# Altium integrated library TI Power Management Power Multiplexer (MUX).IntLib: 62 symbols (part 2 of 3)
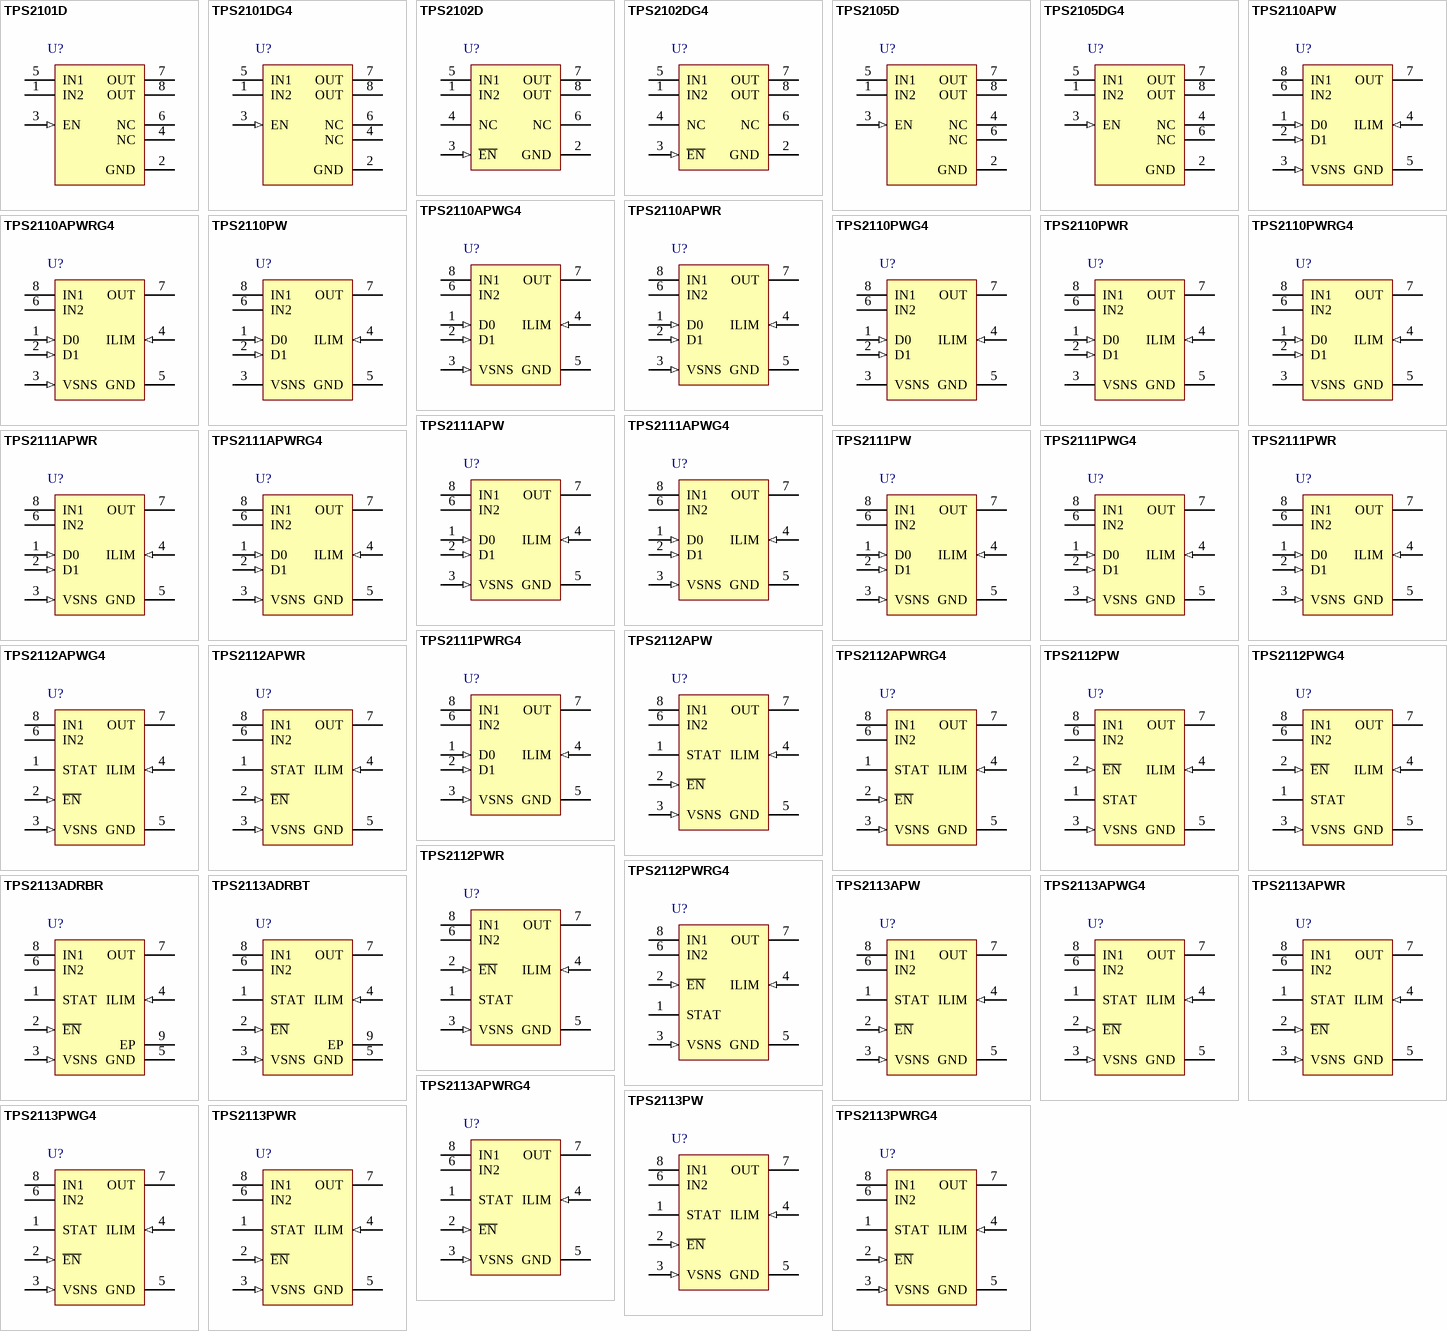
[diagram p2: symbols TPS2101D to TPS2113PWRG4]

## TPS2112APW
designator U?
Dual In / Single Out Autoswitching Power Mux, 2.8 to 5.5 V, -40 to 85 degC, 8-pin TSSOP (PW), Green (RoHS & no Sb/Br); Manufacturer: Texas Instruments; PartNumber: TPS2112APW; IN1 Output Current(Max)(A): 0.75; IN1 rDS(on)(Typ)(mOhm): 120; IN1, IN2 Input Voltage(Max)(V): 5.5; IN1, IN2 Input Voltage(Min)(V): 2.8; IN2 rDS(on)(Typ)(Ohms): 0.12; Number of Inputs: 2; SubFamily: Power Multiplexer (MUX); DatasheetVersion: SBVS045C; PackageVersion: revG, Feb-2011; PackageReference: PW8; PackageDescription: 8-Pin Plastic Thin Small Outline Package 3 x 4.4 mm Body ,0.65 mm Pitch; Supplier 1: Digi-Key; Supplier Part Number 1: 296-34595-5-ND; Supplier 2: Newark; Supplier Part Number 2: 01J0958; Supplier 3: Mouser; Supplier Part Number 3: 595-TPS2112APW; Eco-Plan: Green (RoHS & no Sb/Br); IN2 Output Current(Max)(A): 0.75; Mounting Technology: Surface Mount; Code_JEDEC: MO-153; ComponentLink1Description: Datasheet; ComponentLink1URL: http://www.ti.com/general/docs/lit/getliterature.tsp?genericPartNumber=TPS2112A&fileType=pdf
footprint PW8_N (TSOP, 8-Leads, Body 3x4.4mm, Pitch 0.65mm, IPC Medium Density)
footprint PW8_L (TSOP, 8-Leads, Body 3x4.4mm, Pitch 0.65mm, IPC High Density)
footprint PW8_M (TSOP, 8-Leads, Body 3x4.4mm, Pitch 0.65mm, IPC Low Density)
pins: 1 STAT (hiz) "STAT is an open-drain output that is Hi-Z if the IN2 switch is ON. STAT pulls low if the IN1 switch is ON or if OUT is Hi-Z (that is, E\N\ is equal to logic '0')", 2 ~{EN} (in) "TTL- and CMOS-compatible input with a 1-uA pull-up. The Truth Table illustrates the functionality of E\N\.", 3 VSNS (in) "An internal power FET connects OUT to IN1 if the VSNS voltage is greater than 0.8 V.Otherwise, the FET connects OUT to the higher of IN1 and IN2. The Truth Table illustrates the functionality of VSNS.", 4 ILIM (in) "A resistor (RILIM) from ILIM to GND sets the current limit (IL) to 250/RILIM for the TPS2112A", 5 GND (power) "Ground", 6 IN2 (power) "Secondary power switch input. The IN2 switch can be enabled only if the IN2 supply is above the UVLO threshold and at least one supply exceeds the internal VDD UVLO.", 7 OUT (power) "Power switch output", 8 IN1 (power) "Primary power switch input. The IN1 switch can be enabled only if the IN1 supply is above the UVLO threshold and at least one supply exceeds the internal VDD UVLO."

## TPS2112APWG4
designator U?
Dual In / Single Out Autoswitching Power Mux, 2.8 to 5.5 V, -40 to 85 degC, 8-pin TSSOP (PW), Green (RoHS & no Sb/Br); Manufacturer: Texas Instruments; PartNumber: TPS2112APWG4; IN1 Output Current(Max)(A): 0.75; IN1 rDS(on)(Typ)(mOhm): 120; IN1, IN2 Input Voltage(Max)(V): 5.5; IN1, IN2 Input Voltage(Min)(V): 2.8; IN2 rDS(on)(Typ)(Ohms): 0.12; Number of Inputs: 2; SubFamily: Power Multiplexer (MUX); DatasheetVersion: SBVS045C; PackageVersion: revG, Feb-2011; PackageReference: PW8; PackageDescription: 8-Pin Plastic Thin Small Outline Package 3 x 4.4 mm Body ,0.65 mm Pitch; Supplier 1: Digi-Key; Supplier Part Number 1: TPS2112APWG4-ND; Supplier 2: Newark; Supplier Part Number 2: 54K1556; Supplier 3: Mouser; Supplier Part Number 3: 595-TPS2112APWG4; Eco-Plan: Green (RoHS & no Sb/Br); IN2 Output Current(Max)(A): 0.75; Mounting Technology: Surface Mount; Code_JEDEC: MO-153; ComponentLink1Description: Datasheet; ComponentLink1URL: http://www.ti.com/general/docs/lit/getliterature.tsp?genericPartNumber=TPS2112A&fileType=pdf
footprint PW8_N (TSOP, 8-Leads, Body 3x4.4mm, Pitch 0.65mm, IPC Medium Density)
footprint PW8_L (TSOP, 8-Leads, Body 3x4.4mm, Pitch 0.65mm, IPC High Density)
footprint PW8_M (TSOP, 8-Leads, Body 3x4.4mm, Pitch 0.65mm, IPC Low Density)
pins: 1 STAT (hiz) "STAT is an open-drain output that is Hi-Z if the IN2 switch is ON. STAT pulls low if the IN1 switch is ON or if OUT is Hi-Z (that is, E\N\ is equal to logic '0')", 2 ~{EN} (in) "TTL- and CMOS-compatible input with a 1-uA pull-up. The Truth Table illustrates the functionality of E\N\.", 3 VSNS (in) "An internal power FET connects OUT to IN1 if the VSNS voltage is greater than 0.8 V.Otherwise, the FET connects OUT to the higher of IN1 and IN2. The Truth Table illustrates the functionality of VSNS.", 4 ILIM (in) "A resistor (RILIM) from ILIM to GND sets the current limit (IL) to 250/RILIM for the TPS2112A", 5 GND (power) "Ground", 6 IN2 (power) "Secondary power switch input. The IN2 switch can be enabled only if the IN2 supply is above the UVLO threshold and at least one supply exceeds the internal VDD UVLO.", 7 OUT (power) "Power switch output", 8 IN1 (power) "Primary power switch input. The IN1 switch can be enabled only if the IN1 supply is above the UVLO threshold and at least one supply exceeds the internal VDD UVLO."

## TPS2112APWR
designator U?
Dula In / Single Out Autoswitching Power Mux, 2.8 to 5.5 V, -40 to 85 degC, 8-pin TSSOP (PW), Green (RoHS & no Sb/Br); Manufacturer: Texas Instruments; PartNumber: TPS2112APWR; IN1 Output Current(Max)(A): 0.75; IN1 rDS(on)(Typ)(mOhm): 120; IN1, IN2 Input Voltage(Max)(V): 5.5; IN1, IN2 Input Voltage(Min)(V): 2.8; IN2 rDS(on)(Typ)(Ohms): 0.12; Number of Inputs: 2; SubFamily: Power Multiplexer (MUX); DatasheetVersion: SBVS045C; PackageVersion: revG, Feb-2011; PackageReference: PW8; PackageDescription: 8-Pin Plastic Thin Small Outline Package 3 x 4.4 mm Body ,0.65 mm Pitch; Supplier 1: Digi-Key; Supplier Part Number 1: 296-16937-2-ND; Supplier 2: Digi-Key; Supplier Part Number 2: 296-16937-1-ND; Supplier 3: Digi-Key; Supplier Part Number 3: 296-16937-6-ND; Supplier 4: Newark; Supplier Part Number 4: 01J0959; Supplier 5: Mouser; Supplier Part Number 5: 595-TPS2112APWR; Eco-Plan: Green (RoHS & no Sb/Br); IN2 Output Current(Max)(A): 0.75; Mounting Technology: Surface Mount; Code_JEDEC: MO-153; ComponentLink1Description: Datasheet; ComponentLink1URL: http://www.ti.com/general/docs/lit/getliterature.tsp?genericPartNumber=TPS2112A&fileType=pdf
footprint PW8_N (TSOP, 8-Leads, Body 3x4.4mm, Pitch 0.65mm, IPC Medium Density)
footprint PW8_L (TSOP, 8-Leads, Body 3x4.4mm, Pitch 0.65mm, IPC High Density)
footprint PW8_M (TSOP, 8-Leads, Body 3x4.4mm, Pitch 0.65mm, IPC Low Density)
pins: 1 STAT (hiz) "STAT is an open-drain output that is Hi-Z if the IN2 switch is ON. STAT pulls low if the IN1 switch is ON or if OUT is Hi-Z (that is, E\N\ is equal to logic '0')", 2 ~{EN} (in) "TTL- and CMOS-compatible input with a 1-uA pull-up. The Truth Table illustrates the functionality of E\N\.", 3 VSNS (in) "An internal power FET connects OUT to IN1 if the VSNS voltage is greater than 0.8 V.Otherwise, the FET connects OUT to the higher of IN1 and IN2. The Truth Table illustrates the functionality of VSNS.", 4 ILIM (in) "A resistor (RILIM) from ILIM to GND sets the current limit (IL) to 250/RILIM for the TPS2112A", 5 GND (power) "Ground", 6 IN2 (power) "Secondary power switch input. The IN2 switch can be enabled only if the IN2 supply is above the UVLO threshold and at least one supply exceeds the internal VDD UVLO.", 7 OUT (power) "Power switch output", 8 IN1 (power) "Primary power switch input. The IN1 switch can be enabled only if the IN1 supply is above the UVLO threshold and at least one supply exceeds the internal VDD UVLO."

## TPS2112APWRG4
designator U?
Dula In / Single Out Autoswitching Power Mux, 2.8 to 5.5 V, -40 to 85 degC, 8-pin TSSOP (PW), Green (RoHS & no Sb/Br); Manufacturer: Texas Instruments; PartNumber: TPS2112APWRG4; IN1 Output Current(Max)(A): 0.75; IN1 rDS(on)(Typ)(mOhm): 120; IN1, IN2 Input Voltage(Max)(V): 5.5; IN1, IN2 Input Voltage(Min)(V): 2.8; IN2 rDS(on)(Typ)(Ohms): 0.12; Number of Inputs: 2; SubFamily: Power Multiplexer (MUX); DatasheetVersion: SBVS045C; PackageVersion: revG, Feb-2011; PackageReference: PW8; PackageDescription: 8-Pin Plastic Thin Small Outline Package 3 x 4.4 mm Body ,0.65 mm Pitch; Supplier 1: Digi-Key; Supplier Part Number 1: TPS2112APWRG4-ND; Supplier 2: Newark; Supplier Part Number 2: 54K1557; Supplier 3: Mouser; Supplier Part Number 3: 595-TPS2112APWRG4; Eco-Plan: Green (RoHS & no Sb/Br); IN2 Output Current(Max)(A): 0.75; Mounting Technology: Surface Mount; Code_JEDEC: MO-153; ComponentLink1Description: Datasheet; ComponentLink1URL: http://www.ti.com/general/docs/lit/getliterature.tsp?genericPartNumber=TPS2112A&fileType=pdf
footprint PW8_N (TSOP, 8-Leads, Body 3x4.4mm, Pitch 0.65mm, IPC Medium Density)
footprint PW8_L (TSOP, 8-Leads, Body 3x4.4mm, Pitch 0.65mm, IPC High Density)
footprint PW8_M (TSOP, 8-Leads, Body 3x4.4mm, Pitch 0.65mm, IPC Low Density)
pins: 1 STAT (hiz) "STAT is an open-drain output that is Hi-Z if the IN2 switch is ON. STAT pulls low if the IN1 switch is ON or if OUT is Hi-Z (that is, E\N\ is equal to logic '0')", 2 ~{EN} (in) "TTL- and CMOS-compatible input with a 1-uA pull-up. The Truth Table illustrates the functionality of E\N\.", 3 VSNS (in) "An internal power FET connects OUT to IN1 if the VSNS voltage is greater than 0.8 V.Otherwise, the FET connects OUT to the higher of IN1 and IN2. The Truth Table illustrates the functionality of VSNS.", 4 ILIM (in) "A resistor (RILIM) from ILIM to GND sets the current limit (IL) to 250/RILIM for the TPS2112A", 5 GND (power) "Ground", 6 IN2 (power) "Secondary power switch input. The IN2 switch can be enabled only if the IN2 supply is above the UVLO threshold and at least one supply exceeds the internal VDD UVLO.", 7 OUT (power) "Power switch output", 8 IN1 (power) "Primary power switch input. The IN1 switch can be enabled only if the IN1 supply is above the UVLO threshold and at least one supply exceeds the internal VDD UVLO."

## TPS2112PW
designator U?
Dual In / Single Out Autoswitching Power MUX, Auto Sw, Adj. Cur Limit, Adj. Vol Threshold, Sw Status, 2.8 to 5.5 V, -40 to 85 degC, 8-pin TSSOP (PW), Green (RoHS & no Sb/Br); Manufacturer: Texas Instruments; PartNumber: TPS2112PW; IN1 Output Current(Max)(A): 0.75; IN1 rDS(on)(Typ)(mOhm): 120; IN1, IN2 Input Voltage(Max)(V): 5.5; IN1, IN2 Input Voltage(Min)(V): 2.8; IN2 rDS(on)(Typ)(Ohms): 0.12; Number of Inputs: 2; SubFamily: Power Multiplexer (MUX); DatasheetVersion: SLVS446; PackageVersion: revG, Feb-2011; PackageReference: PW8; PackageDescription: 8-Pin Plastic Thin Small Outline Package 3 x 4.4 mm Body ,0.65 mm Pitch; Supplier 1: Digi-Key; Supplier Part Number 1: 296-14204-5-ND; Supplier 2: Newark; Supplier Part Number 2: 22H1361; Supplier 3: Mouser; Supplier Part Number 3: 595-TPS2112PW; Eco-Plan: Green (RoHS & no Sb/Br); IN2 Output Current(Max)(A): 0.75; Mounting Technology: Surface Mount; Code_JEDEC: MO-153; ComponentLink1Description: Datasheet; ComponentLink1URL: http://www.ti.com/general/docs/lit/getliterature.tsp?genericPartNumber=TPS2112&fileType=pdf
footprint PW8_N (TSOP, 8-Leads, Body 3x4.4mm, Pitch 0.65mm, IPC Medium Density)
footprint PW8_L (TSOP, 8-Leads, Body 3x4.4mm, Pitch 0.65mm, IPC High Density)
footprint PW8_M (TSOP, 8-Leads, Body 3x4.4mm, Pitch 0.65mm, IPC Low Density)
pins: 1 STAT (hiz) "STAT is an open-drain output that is Hi-Z if the IN2 switch is ON. STAT pulls low if the IN1 switch is ON or if OUT is Hi-Z (i.e., E\N\ is equal to logic 0)", 2 ~{EN} (in) "E\N\ is a TTL and CMOS compatible input with a 1-uA pull-up. The truth table shown above illustrates the functionality of E\N\.", 3 VSNS (in) "An internal power FET connects OUT to IN1 if the VSNS voltage is greater than 0.8 V. Otherwise, the FET connects OUT to the higher of IN1 and IN2. The truth table shown above illustrates the functionality of VSNS.", 4 ILIM (in) "A resistor RILIM from ILIM to GND sets the current limit IL to 250/RILIM and 500/RILIM for the TPS2112 and TPS2113, respectively.", 5 GND (power) "Ground", 6 IN2 (power) "Secondary power switch input. The IN2 switch can be enabled only if the IN2 supply is above the UVLO threshold and at least one supply exceeds the internal VDD UVLO.", 7 OUT (power) "Power switch output", 8 IN1 (power) "Primary power switch input. The IN1 switch can be enabled only if the IN1 supply is above the UVLO threshold and at least one supply exceeds the internal VDD UVLO."

## TPS2112PWG4
designator U?
Dual In / Single Out Autoswitching Power MUX, Auto Sw, Adj. Cur Limit, Adj. Vol Threshold, Sw Status, 2.8 to 5.5 V, -40 to 85 degC, 8-pin TSSOP (PW), Green (RoHS & no Sb/Br); Manufacturer: Texas Instruments; PartNumber: TPS2112PWG4; IN1 Output Current(Max)(A): 0.75; IN1 rDS(on)(Typ)(mOhm): 120; IN1, IN2 Input Voltage(Max)(V): 5.5; IN1, IN2 Input Voltage(Min)(V): 2.8; IN2 rDS(on)(Typ)(Ohms): 0.12; Number of Inputs: 2; SubFamily: Power Multiplexer (MUX); DatasheetVersion: SLVS446; PackageVersion: revG, Feb-2011; PackageReference: PW8; PackageDescription: 8-Pin Plastic Thin Small Outline Package 3 x 4.4 mm Body ,0.65 mm Pitch; Supplier 1: Digi-Key; Supplier Part Number 1: TPS2112PWG4-ND; Supplier 2: Newark; Supplier Part Number 2: 54K1558; Supplier 3: Mouser; Supplier Part Number 3: 595-TPS2112PWG4; Eco-Plan: Green (RoHS & no Sb/Br); IN2 Output Current(Max)(A): 0.75; Mounting Technology: Surface Mount; Code_JEDEC: MO-153; ComponentLink1Description: Datasheet; ComponentLink1URL: http://www.ti.com/general/docs/lit/getliterature.tsp?genericPartNumber=TPS2112&fileType=pdf
footprint PW8_N (TSOP, 8-Leads, Body 3x4.4mm, Pitch 0.65mm, IPC Medium Density)
footprint PW8_L (TSOP, 8-Leads, Body 3x4.4mm, Pitch 0.65mm, IPC High Density)
footprint PW8_M (TSOP, 8-Leads, Body 3x4.4mm, Pitch 0.65mm, IPC Low Density)
pins: 1 STAT (hiz) "STAT is an open-drain output that is Hi-Z if the IN2 switch is ON. STAT pulls low if the IN1 switch is ON or if OUT is Hi-Z (i.e., E\N\ is equal to logic 0)", 2 ~{EN} (in) "E\N\ is a TTL and CMOS compatible input with a 1-uA pull-up. The truth table shown above illustrates the functionality of E\N\.", 3 VSNS (in) "An internal power FET connects OUT to IN1 if the VSNS voltage is greater than 0.8 V. Otherwise, the FET connects OUT to the higher of IN1 and IN2. The truth table shown above illustrates the functionality of VSNS.", 4 ILIM (in) "A resistor RILIM from ILIM to GND sets the current limit IL to 250/RILIM and 500/RILIM for the TPS2112 and TPS2113, respectively.", 5 GND (power) "Ground", 6 IN2 (power) "Secondary power switch input. The IN2 switch can be enabled only if the IN2 supply is above the UVLO threshold and at least one supply exceeds the internal VDD UVLO.", 7 OUT (power) "Power switch output", 8 IN1 (power) "Primary power switch input. The IN1 switch can be enabled only if the IN1 supply is above the UVLO threshold and at least one supply exceeds the internal VDD UVLO."

## TPS2112PWR
designator U?
Dual In / Single Out Autoswitching Power MUX, Auto Sw, Adj. Cur Limit, Adj. Vol Threshold, Sw Status, 2.8 to 5.5 V, -40 to 85 degC, 8-pin TSSOP (PW), Green (RoHS & no Sb/Br); Manufacturer: Texas Instruments; PartNumber: TPS2112PWR; IN1 Output Current(Max)(A): 0.75; IN1 rDS(on)(Typ)(mOhm): 120; IN1, IN2 Input Voltage(Max)(V): 5.5; IN1, IN2 Input Voltage(Min)(V): 2.8; IN2 rDS(on)(Typ)(Ohms): 0.12; Number of Inputs: 2; SubFamily: Power Multiplexer (MUX); DatasheetVersion: SLVS446; PackageVersion: revG, Feb-2011; PackageReference: PW8; PackageDescription: 8-Pin Plastic Thin Small Outline Package 3 x 4.4 mm Body ,0.65 mm Pitch; Supplier 1: Digi-Key; Supplier Part Number 1: TPS2112PWR-ND; Supplier 2: Newark; Supplier Part Number 2: 22H1362; Supplier 3: Mouser; Supplier Part Number 3: 595-TPS2112PWR; Eco-Plan: Green (RoHS & no Sb/Br); IN2 Output Current(Max)(A): 0.75; Mounting Technology: Surface Mount; Code_JEDEC: MO-153; ComponentLink1Description: Datasheet; ComponentLink1URL: http://www.ti.com/general/docs/lit/getliterature.tsp?genericPartNumber=TPS2112&fileType=pdf
footprint PW8_N (TSOP, 8-Leads, Body 3x4.4mm, Pitch 0.65mm, IPC Medium Density)
footprint PW8_L (TSOP, 8-Leads, Body 3x4.4mm, Pitch 0.65mm, IPC High Density)
footprint PW8_M (TSOP, 8-Leads, Body 3x4.4mm, Pitch 0.65mm, IPC Low Density)
pins: 1 STAT (hiz) "STAT is an open-drain output that is Hi-Z if the IN2 switch is ON. STAT pulls low if the IN1 switch is ON or if OUT is Hi-Z (i.e., E\N\ is equal to logic 0)", 2 ~{EN} (in) "E\N\ is a TTL and CMOS compatible input with a 1-uA pull-up. The truth table shown above illustrates the functionality of E\N\.", 3 VSNS (in) "An internal power FET connects OUT to IN1 if the VSNS voltage is greater than 0.8 V. Otherwise, the FET connects OUT to the higher of IN1 and IN2. The truth table shown above illustrates the functionality of VSNS.", 4 ILIM (in) "A resistor RILIM from ILIM to GND sets the current limit IL to 250/RILIM and 500/RILIM for the TPS2112 and TPS2113, respectively.", 5 GND (power) "Ground", 6 IN2 (power) "Secondary power switch input. The IN2 switch can be enabled only if the IN2 supply is above the UVLO threshold and at least one supply exceeds the internal VDD UVLO.", 7 OUT (power) "Power switch output", 8 IN1 (power) "Primary power switch input. The IN1 switch can be enabled only if the IN1 supply is above the UVLO threshold and at least one supply exceeds the internal VDD UVLO."

## TPS2112PWRG4
designator U?
Dual In / Single Out Autoswitching Power MUX, Auto Sw, Adj. Cur Limit, Adj. Vol Threshold, Sw Status, 2.8 to 5.5 V, -40 to 85 degC, 8-pin TSSOP (PW), Green (RoHS & no Sb/Br); Manufacturer: Texas Instruments; PartNumber: TPS2112PWRG4; IN1 Output Current(Max)(A): 0.75; IN1 rDS(on)(Typ)(mOhm): 120; IN1, IN2 Input Voltage(Max)(V): 5.5; IN1, IN2 Input Voltage(Min)(V): 2.8; IN2 rDS(on)(Typ)(Ohms): 0.12; Number of Inputs: 2; SubFamily: Power Multiplexer (MUX); DatasheetVersion: SLVS446; PackageVersion: revG, Feb-2011; PackageReference: PW8; PackageDescription: 8-Pin Plastic Thin Small Outline Package 3 x 4.4 mm Body ,0.65 mm Pitch; Supplier 1: Digi-Key; Supplier Part Number 1: TPS2112PWRG4-ND; Supplier 2: Newark; Supplier Part Number 2: 54K1559; Supplier 3: Mouser; Supplier Part Number 3: 595-TPS2112PWRG4; Eco-Plan: Green (RoHS & no Sb/Br); IN2 Output Current(Max)(A): 0.75; Mounting Technology: Surface Mount; Code_JEDEC: MO-153; ComponentLink1Description: Datasheet; ComponentLink1URL: http://www.ti.com/general/docs/lit/getliterature.tsp?genericPartNumber=TPS2112&fileType=pdf
footprint PW8_N (TSOP, 8-Leads, Body 3x4.4mm, Pitch 0.65mm, IPC Medium Density)
footprint PW8_L (TSOP, 8-Leads, Body 3x4.4mm, Pitch 0.65mm, IPC High Density)
footprint PW8_M (TSOP, 8-Leads, Body 3x4.4mm, Pitch 0.65mm, IPC Low Density)
pins: 1 STAT (hiz) "STAT is an open-drain output that is Hi-Z if the IN2 switch is ON. STAT pulls low if the IN1 switch is ON or if OUT is Hi-Z (i.e., E\N\ is equal to logic 0)", 2 ~{EN} (in) "E\N\ is a TTL and CMOS compatible input with a 1-uA pull-up. The truth table shown above illustrates the functionality of E\N\.", 3 VSNS (in) "An internal power FET connects OUT to IN1 if the VSNS voltage is greater than 0.8 V. Otherwise, the FET connects OUT to the higher of IN1 and IN2. The truth table shown above illustrates the functionality of VSNS.", 4 ILIM (in) "A resistor RILIM from ILIM to GND sets the current limit IL to 250/RILIM and 500/RILIM for the TPS2112 and TPS2113, respectively.", 5 GND (power) "Ground", 6 IN2 (power) "Secondary power switch input. The IN2 switch can be enabled only if the IN2 supply is above the UVLO threshold and at least one supply exceeds the internal VDD UVLO.", 7 OUT (power) "Power switch output", 8 IN1 (power) "Primary power switch input. The IN1 switch can be enabled only if the IN1 supply is above the UVLO threshold and at least one supply exceeds the internal VDD UVLO."

## TPS2113ADRBR
designator U?
Dual In / Single Out Autoswitching Power Mux, 2.8 to 5.5 V, -40 to 85 degC, 9-pin SON (DRB), Green (RoHS & no Sb/Br); Manufacturer: Texas Instruments; PartNumber: TPS2113ADRBR; IN1 Output Current(Max)(A): 1.25; IN1 rDS(on)(Typ)(mOhm): 84; IN1, IN2 Input Voltage(Max)(V): 5.5; IN1, IN2 Input Voltage(Min)(V): 2.8; IN2 rDS(on)(Typ)(Ohms): 0.084; Number of Inputs: 2; SubFamily: Power Multiplexer (MUX); DatasheetVersion: SBVS045C; PackageVersion: revK, Jun-2012; PackageReference: DRB8-2400X1650TP; PackageDescription: 8-Pin Plastic Small Outline No-Lead, 3 x 3 x 1 mm Body, 0.65 mm Pitch, Exposed Pad; Supplier 1: Digi-Key; Supplier Part Number 1: TPS2113ADRBR-ND; Supplier 2: Newark; Supplier Part Number 2: 74R6612; Supplier 3: Mouser; Supplier Part Number 3: 595-TPS2113ADRBR; Eco-Plan: Green (RoHS & no Sb/Br); IN2 Output Current(Max)(A): 1.25; Mounting Technology: Surface Mount; ComponentLink1Description: Datasheet; ComponentLink1URL: http://www.ti.com/general/docs/lit/getliterature.tsp?genericPartNumber=TPS2113A&fileType=pdf
footprint DRB8-2400X1650TP (SON, 8-Leads, Body 3x3mm, Pitch 0.65mm, Thermal Pad 2.4x1.65mm, TI Recommended)
pins: 1 STAT (hiz) "STAT is an open-drain output that is Hi-Z if the IN2 switch is ON. STAT pulls low if the IN1 switch is ON or if OUT is Hi-Z (that is, E\N\ is equal to logic '0')", 2 ~{EN} (in) "TTL- and CMOS-compatible input with a 1-uA pull-up. The Truth Table illustrates the functionality of E\N\.", 3 VSNS (in) "An internal power FET connects OUT to IN1 if the VSNS voltage is greater than 0.8 V.Otherwise, the FET connects OUT to the higher of IN1 and IN2. The Truth Table illustrates the functionality of VSNS.", 4 ILIM (in) "A resistor (RILIM) from ILIM to GND sets the current limit (IL) to 250/RILIM and 500/RILIM for the TPS2113A, respectively.", 5 GND (power) "Ground", 6 IN2 (power) "Secondary power switch input. The IN2 switch can be enabled only if the IN2 supply is above the UVLO threshold and at least one supply exceeds the internal VDD UVLO.", 7 OUT (power) "Power switch output", 8 IN1 (power) "Primary power switch input. The IN1 switch can be enabled only if the IN1 supply is above the UVLO threshold and at least one supply exceeds the internal VDD UVLO.", 9 EP (power) "Connect to GND. Must be connected to large copper area in order to meet stated package dissipation ratings."

## TPS2113ADRBT
designator U?
Dual In / Single Out Autoswitching Power Mux, 2.8 to 5.5 V, -40 to 85 degC, 9-pin SON (DRB), Green (RoHS & no Sb/Br); Manufacturer: Texas Instruments; PartNumber: TPS2113ADRBT; IN1 Output Current(Max)(A): 1.25; IN1 rDS(on)(Typ)(mOhm): 84; IN1, IN2 Input Voltage(Max)(V): 5.5; IN1, IN2 Input Voltage(Min)(V): 2.8; IN2 rDS(on)(Typ)(Ohms): 0.084; Number of Inputs: 2; SubFamily: Power Multiplexer (MUX); DatasheetVersion: SBVS045C; PackageVersion: revK, Jun-2012; PackageReference: DRB8-2400X1650TP; PackageDescription: 8-Pin Plastic Small Outline No-Lead, 3 x 3 x 1 mm Body, 0.65 mm Pitch, Exposed Pad; Supplier 1: Digi-Key; Supplier Part Number 1: 296-27373-2-ND; Supplier 2: Digi-Key; Supplier Part Number 2: 296-27373-1-ND; Supplier 3: Digi-Key; Supplier Part Number 3: 296-27373-6-ND; Supplier 4: Newark; Supplier Part Number 4: 74R6613; Supplier 5: Mouser; Supplier Part Number 5: 595-TPS2113ADRBT; Eco-Plan: Green (RoHS & no Sb/Br); IN2 Output Current(Max)(A): 1.25; Mounting Technology: Surface Mount; ComponentLink1Description: Datasheet; ComponentLink1URL: http://www.ti.com/general/docs/lit/getliterature.tsp?genericPartNumber=TPS2113A&fileType=pdf
footprint DRB8-2400X1650TP (SON, 8-Leads, Body 3x3mm, Pitch 0.65mm, Thermal Pad 2.4x1.65mm, TI Recommended)
pins: 1 STAT (hiz) "STAT is an open-drain output that is Hi-Z if the IN2 switch is ON. STAT pulls low if the IN1 switch is ON or if OUT is Hi-Z (that is, E\N\ is equal to logic '0')", 2 ~{EN} (in) "TTL- and CMOS-compatible input with a 1-uA pull-up. The Truth Table illustrates the functionality of E\N\.", 3 VSNS (in) "An internal power FET connects OUT to IN1 if the VSNS voltage is greater than 0.8 V.Otherwise, the FET connects OUT to the higher of IN1 and IN2. The Truth Table illustrates the functionality of VSNS.", 4 ILIM (in) "A resistor (RILIM) from ILIM to GND sets the current limit (IL) to 250/RILIM and 500/RILIM for the TPS2113A, respectively.", 5 GND (power) "Ground", 6 IN2 (power) "Secondary power switch input. The IN2 switch can be enabled only if the IN2 supply is above the UVLO threshold and at least one supply exceeds the internal VDD UVLO.", 7 OUT (power) "Power switch output", 8 IN1 (power) "Primary power switch input. The IN1 switch can be enabled only if the IN1 supply is above the UVLO threshold and at least one supply exceeds the internal VDD UVLO.", 9 EP (power) "Connect to GND. Must be connected to large copper area in order to meet stated package dissipation ratings."

## TPS2113APW
designator U?
Dual In / Single Out Autoswitching Power Mux, 2.8 to 5.5 V, -40 to 85 degC, 8-pin TSSOP (PW), Green (RoHS & no Sb/Br); Manufacturer: Texas Instruments; PartNumber: TPS2113APW; IN1 Output Current(Max)(A): 1.25; IN1 rDS(on)(Typ)(mOhm): 84; IN1, IN2 Input Voltage(Max)(V): 5.5; IN1, IN2 Input Voltage(Min)(V): 2.8; IN2 rDS(on)(Typ)(Ohms): 0.084; Number of Inputs: 2; SubFamily: Power Multiplexer (MUX); DatasheetVersion: SBVS045C; PackageVersion: revG, Feb-2011; PackageReference: PW8; PackageDescription: 8-Pin Plastic Thin Small Outline Package 3 x 4.4 mm Body ,0.65 mm Pitch; Supplier 1: Digi-Key; Supplier Part Number 1: 296-34596-5-ND; Supplier 2: Farnell; Supplier Part Number 2: 2075396; Supplier 3: Newark; Supplier Part Number 3: 82T3162; Supplier 4: Newark; Supplier Part Number 4: 01J0960; Supplier 5: Mouser; Supplier Part Number 5: 595-TPS2113APW; Eco-Plan: Green (RoHS & no Sb/Br); IN2 Output Current(Max)(A): 1.25; Mounting Technology: Surface Mount; Code_JEDEC: MO-153; ComponentLink1Description: Datasheet; ComponentLink1URL: http://www.ti.com/general/docs/lit/getliterature.tsp?genericPartNumber=TPS2113A&fileType=pdf
footprint PW8_N (TSOP, 8-Leads, Body 3x4.4mm, Pitch 0.65mm, IPC Medium Density)
footprint PW8_L (TSOP, 8-Leads, Body 3x4.4mm, Pitch 0.65mm, IPC High Density)
footprint PW8_M (TSOP, 8-Leads, Body 3x4.4mm, Pitch 0.65mm, IPC Low Density)
pins: 1 STAT (hiz) "STAT is an open-drain output that is Hi-Z if the IN2 switch is ON. STAT pulls low if the IN1 switch is ON or if OUT is Hi-Z (that is, E\N\ is equal to logic '0')", 2 ~{EN} (in) "TTL- and CMOS-compatible input with a 1-uA pull-up. The Truth Table illustrates the functionality of E\N\.", 3 VSNS (in) "An internal power FET connects OUT to IN1 if the VSNS voltage is greater than 0.8 V.Otherwise, the FET connects OUT to the higher of IN1 and IN2. The Truth Table illustrates the functionality of VSNS.", 4 ILIM (in) "A resistor (RILIM) from ILIM to GND sets the current limit (IL) to 250/RILIM and 500/RILIM for the TPS2112A and TPS2113A, respectively.", 5 GND (power) "Ground", 6 IN2 (power) "Secondary power switch input. The IN2 switch can be enabled only if the IN2 supply is above the UVLO threshold and at least one supply exceeds the internal VDDUVLO.", 7 OUT (power) "Power switch output", 8 IN1 (power) "Primary power switch input. The IN1 switch can be enabled only if the IN1 supply is above the UVLO threshold and at least one supply exceeds the internal VDDUVLO."

## TPS2113APWG4
designator U?
Dual In / Single Out Autoswitching Power Mux, 2.8 to 5.5 V, -40 to 85 degC, 8-pin TSSOP (PW), Green (RoHS & no Sb/Br); Manufacturer: Texas Instruments; PartNumber: TPS2113APWG4; IN1 Output Current(Max)(A): 1.25; IN1 rDS(on)(Typ)(mOhm): 84; IN1, IN2 Input Voltage(Max)(V): 5.5; IN1, IN2 Input Voltage(Min)(V): 2.8; IN2 rDS(on)(Typ)(Ohms): 0.084; Number of Inputs: 2; SubFamily: Power Multiplexer (MUX); DatasheetVersion: SBVS045C; PackageVersion: revG, Feb-2011; PackageReference: PW8; PackageDescription: 8-Pin Plastic Thin Small Outline Package 3 x 4.4 mm Body ,0.65 mm Pitch; Supplier 1: Digi-Key; Supplier Part Number 1: TPS2113APWG4-ND; Supplier 2: Newark; Supplier Part Number 2: 67K8618; Supplier 3: Mouser; Supplier Part Number 3: 595-TPS2113APWG4; Eco-Plan: Green (RoHS & no Sb/Br); IN2 Output Current(Max)(A): 1.25; Mounting Technology: Surface Mount; Code_JEDEC: MO-153; ComponentLink1Description: Datasheet; ComponentLink1URL: http://www.ti.com/general/docs/lit/getliterature.tsp?genericPartNumber=TPS2113A&fileType=pdf
footprint PW8_N (TSOP, 8-Leads, Body 3x4.4mm, Pitch 0.65mm, IPC Medium Density)
footprint PW8_L (TSOP, 8-Leads, Body 3x4.4mm, Pitch 0.65mm, IPC High Density)
footprint PW8_M (TSOP, 8-Leads, Body 3x4.4mm, Pitch 0.65mm, IPC Low Density)
pins: 1 STAT (hiz) "STAT is an open-drain output that is Hi-Z if the IN2 switch is ON. STAT pulls low if the IN1 switch is ON or if OUT is Hi-Z (that is, E\N\ is equal to logic '0')", 2 ~{EN} (in) "TTL- and CMOS-compatible input with a 1-uA pull-up. The Truth Table illustrates the functionality of E\N\.", 3 VSNS (in) "An internal power FET connects OUT to IN1 if the VSNS voltage is greater than 0.8 V.Otherwise, the FET connects OUT to the higher of IN1 and IN2. The Truth Table illustrates the functionality of VSNS.", 4 ILIM (in) "A resistor (RILIM) from ILIM to GND sets the current limit (IL) to 250/RILIM and 500/RILIM for the TPS2112A and TPS2113A, respectively.", 5 GND (power) "Ground", 6 IN2 (power) "Secondary power switch input. The IN2 switch can be enabled only if the IN2 supply is above the UVLO threshold and at least one supply exceeds the internal VDDUVLO.", 7 OUT (power) "Power switch output", 8 IN1 (power) "Primary power switch input. The IN1 switch can be enabled only if the IN1 supply is above the UVLO threshold and at least one supply exceeds the internal VDDUVLO."

## TPS2113APWR
designator U?
Dual In / Single Out Autoswitching Power Mux, 2.8 to 5.5 V, -40 to 85 degC, 8-pin TSSOP (PW), Green (RoHS & no Sb/Br); Manufacturer: Texas Instruments; PartNumber: TPS2113APWR; IN1 Output Current(Max)(A): 1.25; IN1 rDS(on)(Typ)(mOhm): 84; IN1, IN2 Input Voltage(Max)(V): 5.5; IN1, IN2 Input Voltage(Min)(V): 2.8; IN2 rDS(on)(Typ)(Ohms): 0.084; Number of Inputs: 2; SubFamily: Power Multiplexer (MUX); DatasheetVersion: SBVS045C; PackageVersion: revG, Feb-2011; PackageReference: PW8; PackageDescription: 8-Pin Plastic Thin Small Outline Package 3 x 4.4 mm Body ,0.65 mm Pitch; Supplier 1: Digi-Key; Supplier Part Number 1: 296-16938-2-ND; Supplier 2: Digi-Key; Supplier Part Number 2: 296-16938-1-ND; Supplier 3: Digi-Key; Supplier Part Number 3: 296-16938-6-ND; Supplier 4: Newark; Supplier Part Number 4: 01J0961; Supplier 5: Mouser; Supplier Part Number 5: 595-TPS2113APWR; Eco-Plan: Green (RoHS & no Sb/Br); IN2 Output Current(Max)(A): 1.25; Mounting Technology: Surface Mount; Code_JEDEC: MO-153; ComponentLink1Description: Datasheet; ComponentLink1URL: http://www.ti.com/general/docs/lit/getliterature.tsp?genericPartNumber=TPS2113A&fileType=pdf
footprint PW8_N (TSOP, 8-Leads, Body 3x4.4mm, Pitch 0.65mm, IPC Medium Density)
footprint PW8_L (TSOP, 8-Leads, Body 3x4.4mm, Pitch 0.65mm, IPC High Density)
footprint PW8_M (TSOP, 8-Leads, Body 3x4.4mm, Pitch 0.65mm, IPC Low Density)
pins: 1 STAT (hiz) "STAT is an open-drain output that is Hi-Z if the IN2 switch is ON. STAT pulls low if the IN1 switch is ON or if OUT is Hi-Z (that is, E\N\ is equal to logic '0')", 2 ~{EN} (in) "TTL- and CMOS-compatible input with a 1-uA pull-up. The Truth Table illustrates the functionality of E\N\.", 3 VSNS (in) "An internal power FET connects OUT to IN1 if the VSNS voltage is greater than 0.8 V.Otherwise, the FET connects OUT to the higher of IN1 and IN2. The Truth Table illustrates the functionality of VSNS.", 4 ILIM (in) "A resistor (RILIM) from ILIM to GND sets the current limit (IL) to 250/RILIM and 500/RILIM for the TPS2112A and TPS2113A, respectively.", 5 GND (power) "Ground", 6 IN2 (power) "Secondary power switch input. The IN2 switch can be enabled only if the IN2 supply is above the UVLO threshold and at least one supply exceeds the internal VDDUVLO.", 7 OUT (power) "Power switch output", 8 IN1 (power) "Primary power switch input. The IN1 switch can be enabled only if the IN1 supply is above the UVLO threshold and at least one supply exceeds the internal VDDUVLO."

## TPS2113APWRG4
designator U?
Dual In / Single Out Autoswitching Power Mux, 2.8 to 5.5 V, -40 to 85 degC, 8-pin TSSOP (PW), Green (RoHS & no Sb/Br); Manufacturer: Texas Instruments; PartNumber: TPS2113APWRG4; IN1 Output Current(Max)(A): 1.25; IN1 rDS(on)(Typ)(mOhm): 84; IN1, IN2 Input Voltage(Max)(V): 5.5; IN1, IN2 Input Voltage(Min)(V): 2.8; IN2 rDS(on)(Typ)(Ohms): 0.084; Number of Inputs: 2; SubFamily: Power Multiplexer (MUX); DatasheetVersion: SBVS045C; PackageVersion: revG, Feb-2011; PackageReference: PW8; PackageDescription: 8-Pin Plastic Thin Small Outline Package 3 x 4.4 mm Body ,0.65 mm Pitch; Supplier 1: Digi-Key; Supplier Part Number 1: TPS2113APWRG4-ND; Supplier 2: Newark; Supplier Part Number 2: 24K5840; Supplier 3: Mouser; Supplier Part Number 3: 595-TPS2113APWRG4; Eco-Plan: Green (RoHS & no Sb/Br); IN2 Output Current(Max)(A): 1.25; Mounting Technology: Surface Mount; Code_JEDEC: MO-153; ComponentLink1Description: Datasheet; ComponentLink1URL: http://www.ti.com/general/docs/lit/getliterature.tsp?genericPartNumber=TPS2113A&fileType=pdf
footprint PW8_N (TSOP, 8-Leads, Body 3x4.4mm, Pitch 0.65mm, IPC Medium Density)
footprint PW8_L (TSOP, 8-Leads, Body 3x4.4mm, Pitch 0.65mm, IPC High Density)
footprint PW8_M (TSOP, 8-Leads, Body 3x4.4mm, Pitch 0.65mm, IPC Low Density)
pins: 1 STAT (hiz) "STAT is an open-drain output that is Hi-Z if the IN2 switch is ON. STAT pulls low if the IN1 switch is ON or if OUT is Hi-Z (that is, E\N\ is equal to logic '0')", 2 ~{EN} (in) "TTL- and CMOS-compatible input with a 1-uA pull-up. The Truth Table illustrates the functionality of E\N\.", 3 VSNS (in) "An internal power FET connects OUT to IN1 if the VSNS voltage is greater than 0.8 V.Otherwise, the FET connects OUT to the higher of IN1 and IN2. The Truth Table illustrates the functionality of VSNS.", 4 ILIM (in) "A resistor (RILIM) from ILIM to GND sets the current limit (IL) to 250/RILIM and 500/RILIM for the TPS2112A and TPS2113A, respectively.", 5 GND (power) "Ground", 6 IN2 (power) "Secondary power switch input. The IN2 switch can be enabled only if the IN2 supply is above the UVLO threshold and at least one supply exceeds the internal VDDUVLO.", 7 OUT (power) "Power switch output", 8 IN1 (power) "Primary power switch input. The IN1 switch can be enabled only if the IN1 supply is above the UVLO threshold and at least one supply exceeds the internal VDDUVLO."

## TPS2113PW
designator U?
Dual In / Single Out Autoswitching Power MUX, Auto Sw, Adj. Cur Limit, Adj. Vol Threshold, Sw Status, 2.8 to 5.5 V, -40 to 85 degC, 8-pin TSSOP (PW), Green (RoHS & no Sb/Br); Manufacturer: Texas Instruments; PartNumber: TPS2113PW; IN1 Output Current(Max)(A): 1.25; IN1 rDS(on)(Typ)(mOhm): 84; IN1, IN2 Input Voltage(Max)(V): 5.5; IN1, IN2 Input Voltage(Min)(V): 2.8; IN2 rDS(on)(Typ)(Ohms): 0.084; Number of Inputs: 2; SubFamily: Power Multiplexer (MUX); DatasheetVersion: SLVS446; PackageVersion: revG, Feb-2011; PackageReference: PW8; PackageDescription: 8-Pin Plastic Thin Small Outline Package 3 x 4.4 mm Body ,0.65 mm Pitch; Supplier 1: Digi-Key; Supplier Part Number 1: 296-14205-5-ND; Supplier 2: Newark; Supplier Part Number 2: 22H1363; Supplier 3: Mouser; Supplier Part Number 3: 595-TPS2113PW; Eco-Plan: Green (RoHS & no Sb/Br); IN2 Output Current(Max)(A): 1.25; Mounting Technology: Surface Mount; Code_JEDEC: MO-153; ComponentLink1Description: Datasheet; ComponentLink1URL: http://www.ti.com/general/docs/lit/getliterature.tsp?genericPartNumber=TPS2113&fileType=pdf
footprint PW8_N (TSOP, 8-Leads, Body 3x4.4mm, Pitch 0.65mm, IPC Medium Density)
footprint PW8_L (TSOP, 8-Leads, Body 3x4.4mm, Pitch 0.65mm, IPC High Density)
footprint PW8_M (TSOP, 8-Leads, Body 3x4.4mm, Pitch 0.65mm, IPC Low Density)
pins: 1 STAT (hiz) "STAT is an open-drain output that is Hi-Z if the IN2 switch is ON. STAT pulls low if the IN1 switch is ON or if OUT is Hi-Z (i.e., E\N\ is equal to logic 0)", 2 ~{EN} (in) "E\N\ is a TTL and CMOS compatible input with a 1-uA pull-up. The truth table shown above illustrates the functionality of E\N\.", 3 VSNS (in) "An internal power FET connects OUT to IN1 if the VSNS voltage is greater than 0.8 V. Otherwise, the FET connects OUT to the higher of IN1 and IN2. The truth table shown above illustrates the functionality of VSNS.", 4 ILIM (in) "A resistor RILIM from ILIM to GND sets the current limit IL to 250/RILIM and 500/RILIM for the TPS2112 and TPS2113, respectively.", 5 GND (power) "Ground", 6 IN2 (power) "Secondary power switch input. The IN2 switch can be enabled only if the IN2 supply is above the UVLO threshold and at least one supply exceeds the internal VDD UVLO.", 7 OUT (power) "Power switch output", 8 IN1 (power) "Primary power switch input. The IN1 switch can be enabled only if the IN1 supply is above the UVLO threshold and at least one supply exceeds the internal VDD UVLO."

## TPS2113PWG4
designator U?
Dual In / Single Out Autoswitching Power MUX, Auto Sw, Adj. Cur Limit, Adj. Vol Threshold, Sw Status, 2.8 to 5.5 V, -40 to 85 degC, 8-pin TSSOP (PW), Green (RoHS & no Sb/Br); Manufacturer: Texas Instruments; PartNumber: TPS2113PWG4; IN1 Output Current(Max)(A): 1.25; IN1 rDS(on)(Typ)(mOhm): 84; IN1, IN2 Input Voltage(Max)(V): 5.5; IN1, IN2 Input Voltage(Min)(V): 2.8; IN2 rDS(on)(Typ)(Ohms): 0.084; Number of Inputs: 2; SubFamily: Power Multiplexer (MUX); DatasheetVersion: SLVS446; PackageVersion: revG, Feb-2011; PackageReference: PW8; PackageDescription: 8-Pin Plastic Thin Small Outline Package 3 x 4.4 mm Body ,0.65 mm Pitch; Supplier 1: Digi-Key; Supplier Part Number 1: TPS2113PWG4-ND; Supplier 2: Newark; Supplier Part Number 2: 67K8619; Supplier 3: Mouser; Supplier Part Number 3: 595-TPS2113PWG4; Eco-Plan: Green (RoHS & no Sb/Br); IN2 Output Current(Max)(A): 1.25; Mounting Technology: Surface Mount; Code_JEDEC: MO-153; ComponentLink1Description: Datasheet; ComponentLink1URL: http://www.ti.com/general/docs/lit/getliterature.tsp?genericPartNumber=TPS2113&fileType=pdf
footprint PW8_N (TSOP, 8-Leads, Body 3x4.4mm, Pitch 0.65mm, IPC Medium Density)
footprint PW8_L (TSOP, 8-Leads, Body 3x4.4mm, Pitch 0.65mm, IPC High Density)
footprint PW8_M (TSOP, 8-Leads, Body 3x4.4mm, Pitch 0.65mm, IPC Low Density)
pins: 1 STAT (hiz) "STAT is an open-drain output that is Hi-Z if the IN2 switch is ON. STAT pulls low if the IN1 switch is ON or if OUT is Hi-Z (i.e., E\N\ is equal to logic 0)", 2 ~{EN} (in) "E\N\ is a TTL and CMOS compatible input with a 1-uA pull-up. The truth table shown above illustrates the functionality of E\N\.", 3 VSNS (in) "An internal power FET connects OUT to IN1 if the VSNS voltage is greater than 0.8 V. Otherwise, the FET connects OUT to the higher of IN1 and IN2. The truth table shown above illustrates the functionality of VSNS.", 4 ILIM (in) "A resistor RILIM from ILIM to GND sets the current limit IL to 250/RILIM and 500/RILIM for the TPS2112 and TPS2113, respectively.", 5 GND (power) "Ground", 6 IN2 (power) "Secondary power switch input. The IN2 switch can be enabled only if the IN2 supply is above the UVLO threshold and at least one supply exceeds the internal VDD UVLO.", 7 OUT (power) "Power switch output", 8 IN1 (power) "Primary power switch input. The IN1 switch can be enabled only if the IN1 supply is above the UVLO threshold and at least one supply exceeds the internal VDD UVLO."

## TPS2113PWR
designator U?
Dual In / Single Out Autoswitching Power MUX, Auto Sw, Adj. Cur Limit, Adj. Vol Threshold, Sw Status, 2.8 to 5.5 V, -40 to 85 degC, 8-pin TSSOP (PW), Green (RoHS & no Sb/Br); Manufacturer: Texas Instruments; PartNumber: TPS2113PWR; IN1 Output Current(Max)(A): 1.25; IN1 rDS(on)(Typ)(mOhm): 84; IN1, IN2 Input Voltage(Max)(V): 5.5; IN1, IN2 Input Voltage(Min)(V): 2.8; IN2 rDS(on)(Typ)(Ohms): 0.084; Number of Inputs: 2; SubFamily: Power Multiplexer (MUX); DatasheetVersion: SLVS446; PackageVersion: revG, Feb-2011; PackageReference: PW8; PackageDescription: 8-Pin Plastic Thin Small Outline Package 3 x 4.4 mm Body ,0.65 mm Pitch; Supplier 1: Digi-Key; Supplier Part Number 1: TPS2113PWR-ND; Supplier 2: Newark; Supplier Part Number 2: 22H1364; Supplier 3: Mouser; Supplier Part Number 3: 595-TPS2113PWR; Eco-Plan: Green (RoHS & no Sb/Br); IN2 Output Current(Max)(A): 1.25; Mounting Technology: Surface Mount; Code_JEDEC: MO-153; ComponentLink1Description: Datasheet; ComponentLink1URL: http://www.ti.com/general/docs/lit/getliterature.tsp?genericPartNumber=TPS2113&fileType=pdf
footprint PW8_N (TSOP, 8-Leads, Body 3x4.4mm, Pitch 0.65mm, IPC Medium Density)
footprint PW8_L (TSOP, 8-Leads, Body 3x4.4mm, Pitch 0.65mm, IPC High Density)
footprint PW8_M (TSOP, 8-Leads, Body 3x4.4mm, Pitch 0.65mm, IPC Low Density)
pins: 1 STAT (hiz) "STAT is an open-drain output that is Hi-Z if the IN2 switch is ON. STAT pulls low if the IN1 switch is ON or if OUT is Hi-Z (i.e., E\N\ is equal to logic 0)", 2 ~{EN} (in) "E\N\ is a TTL and CMOS compatible input with a 1-uA pull-up. The truth table shown above illustrates the functionality of E\N\.", 3 VSNS (in) "An internal power FET connects OUT to IN1 if the VSNS voltage is greater than 0.8 V. Otherwise, the FET connects OUT to the higher of IN1 and IN2. The truth table shown above illustrates the functionality of VSNS.", 4 ILIM (in) "A resistor RILIM from ILIM to GND sets the current limit IL to 250/RILIM and 500/RILIM for the TPS2112 and TPS2113, respectively.", 5 GND (power) "Ground", 6 IN2 (power) "Secondary power switch input. The IN2 switch can be enabled only if the IN2 supply is above the UVLO threshold and at least one supply exceeds the internal VDD UVLO.", 7 OUT (power) "Power switch output", 8 IN1 (power) "Primary power switch input. The IN1 switch can be enabled only if the IN1 supply is above the UVLO threshold and at least one supply exceeds the internal VDD UVLO."

## TPS2113PWRG4
designator U?
Dual In / Single Out Autoswitching Power MUX, Auto Sw, Adj. Cur Limit, Adj. Vol Threshold, Sw Status, 2.8 to 5.5 V, -40 to 85 degC, 8-pin TSSOP (PW), Green (RoHS & no Sb/Br); Manufacturer: Texas Instruments; PartNumber: TPS2113PWRG4; IN1 Output Current(Max)(A): 1.25; IN1 rDS(on)(Typ)(mOhm): 84; IN1, IN2 Input Voltage(Max)(V): 5.5; IN1, IN2 Input Voltage(Min)(V): 2.8; IN2 rDS(on)(Typ)(Ohms): 0.084; Number of Inputs: 2; SubFamily: Power Multiplexer (MUX); DatasheetVersion: SLVS446; PackageVersion: revG, Feb-2011; PackageReference: PW8; PackageDescription: 8-Pin Plastic Thin Small Outline Package 3 x 4.4 mm Body ,0.65 mm Pitch; Supplier 1: Digi-Key; Supplier Part Number 1: TPS2113PWRG4-ND; Supplier 2: Newark; Supplier Part Number 2: 24K5841; Supplier 3: Mouser; Supplier Part Number 3: 595-TPS2113PWRG4; Eco-Plan: Green (RoHS & no Sb/Br); IN2 Output Current(Max)(A): 1.25; Mounting Technology: Surface Mount; Code_JEDEC: MO-153; ComponentLink1Description: Datasheet; ComponentLink1URL: http://www.ti.com/general/docs/lit/getliterature.tsp?genericPartNumber=TPS2113&fileType=pdf
footprint PW8_N (TSOP, 8-Leads, Body 3x4.4mm, Pitch 0.65mm, IPC Medium Density)
footprint PW8_L (TSOP, 8-Leads, Body 3x4.4mm, Pitch 0.65mm, IPC High Density)
footprint PW8_M (TSOP, 8-Leads, Body 3x4.4mm, Pitch 0.65mm, IPC Low Density)
pins: 1 STAT (hiz) "STAT is an open-drain output that is Hi-Z if the IN2 switch is ON. STAT pulls low if the IN1 switch is ON or if OUT is Hi-Z (i.e., E\N\ is equal to logic 0)", 2 ~{EN} (in) "E\N\ is a TTL and CMOS compatible input with a 1-uA pull-up. The truth table shown above illustrates the functionality of E\N\.", 3 VSNS (in) "An internal power FET connects OUT to IN1 if the VSNS voltage is greater than 0.8 V. Otherwise, the FET connects OUT to the higher of IN1 and IN2. The truth table shown above illustrates the functionality of VSNS.", 4 ILIM (in) "A resistor RILIM from ILIM to GND sets the current limit IL to 250/RILIM and 500/RILIM for the TPS2112 and TPS2113, respectively.", 5 GND (power) "Ground", 6 IN2 (power) "Secondary power switch input. The IN2 switch can be enabled only if the IN2 supply is above the UVLO threshold and at least one supply exceeds the internal VDD UVLO.", 7 OUT (power) "Power switch output", 8 IN1 (power) "Primary power switch input. The IN1 switch can be enabled only if the IN1 supply is above the UVLO threshold and at least one supply exceeds the internal VDD UVLO."

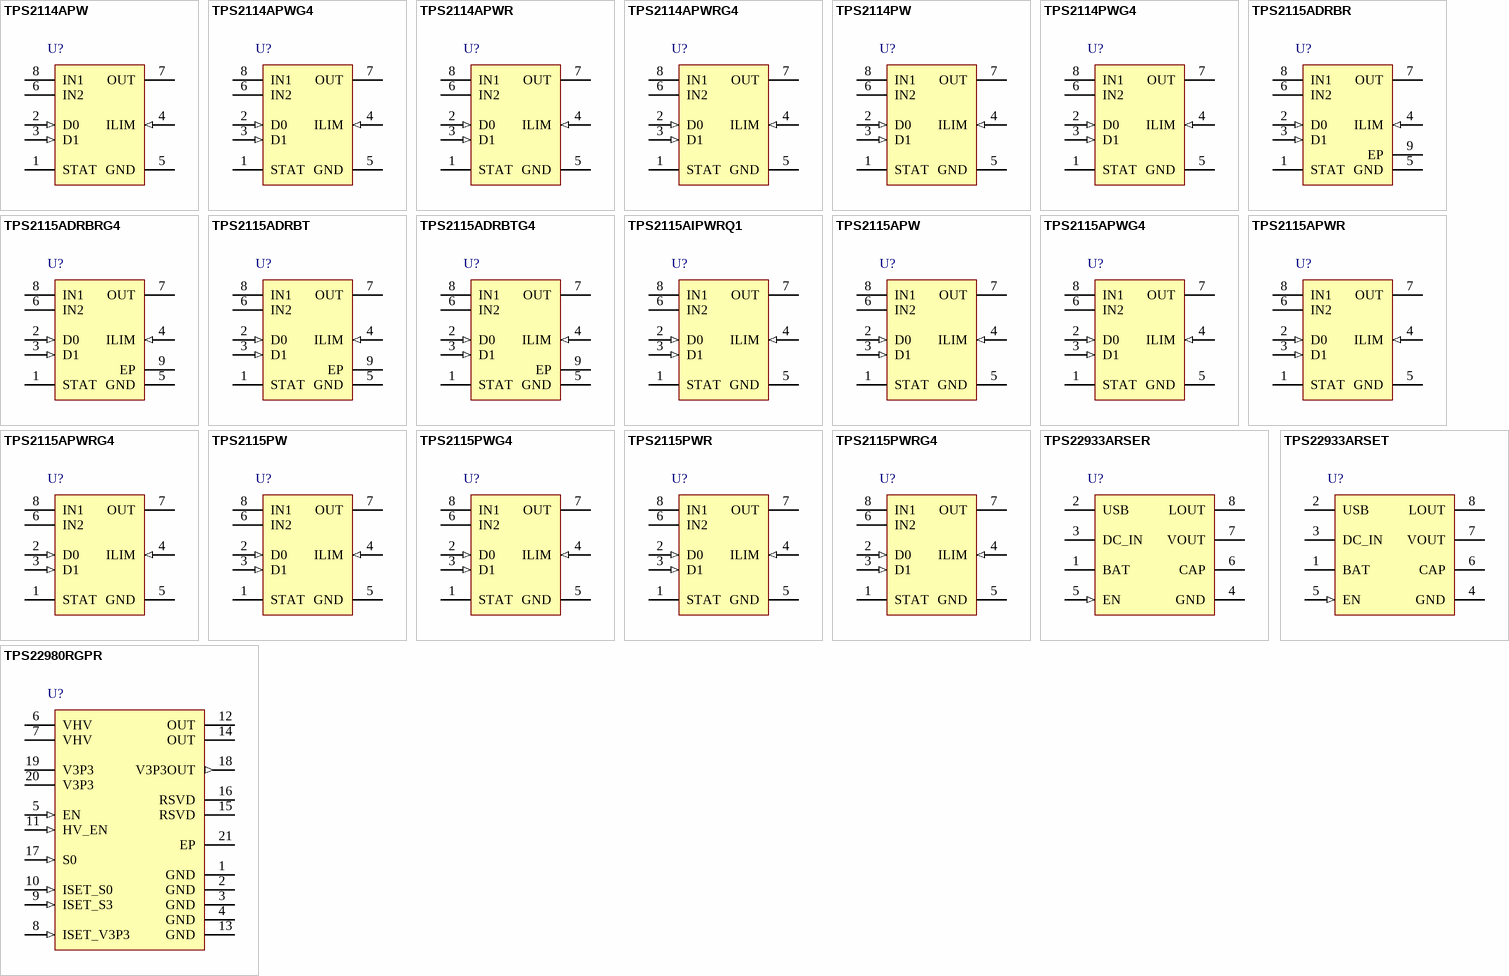
[diagram p1: symbols TPS2114APW to TPS22980RGPR]

## TPS2114APW
designator U?
Dual In / Single Out Autoswitching Power Mux, 2.8 to 5.5 V, -40 to 85 degC, 8-pin TSSOP (PW), Green (RoHS & no Sb/Br); Manufacturer: Texas Instruments; PartNumber: TPS2114APW; IN1 Output Current(Max)(A): 0.75; IN1 rDS(on)(Typ)(mOhm): 120; IN1, IN2 Input Voltage(Max)(V): 5.5; IN1, IN2 Input Voltage(Min)(V): 2.8; IN2 rDS(on)(Typ)(Ohms): 0.12; Number of Inputs: 2; SubFamily: Power Multiplexer (MUX); DatasheetVersion: SBVS044F; PackageVersion: revG, Feb-2011; PackageReference: PW8; PackageDescription: 8-Pin Plastic Thin Small Outline Package 3 x 4.4 mm Body ,0.65 mm Pitch; Supplier 1: Digi-Key; Supplier Part Number 1: 296-34597-5-ND; Supplier 2: Newark; Supplier Part Number 2: 01J0962; Supplier 3: Mouser; Supplier Part Number 3: 595-TPS2114APW; Eco-Plan: Green (RoHS & no Sb/Br); IN2 Output Current(Max)(A): 0.75; Mounting Technology: Surface Mount; Code_JEDEC: MO-153; ComponentLink1Description: Datasheet; ComponentLink1URL: http://www.ti.com/general/docs/lit/getliterature.tsp?genericPartNumber=TPS2114A&fileType=pdf
footprint PW8_N (TSOP, 8-Leads, Body 3x4.4mm, Pitch 0.65mm, IPC Medium Density)
footprint PW8_L (TSOP, 8-Leads, Body 3x4.4mm, Pitch 0.65mm, IPC High Density)
footprint PW8_M (TSOP, 8-Leads, Body 3x4.4mm, Pitch 0.65mm, IPC Low Density)
pins: 1 STAT (hiz) "STAT is an open-drain output that is Hi-Z if the IN2 switch is ON. STAT pulls low if the IN1 switch is ON or if OUT is Hi-Z (i.e., E\N\ is equal to logic 0).", 2 D0 (in) "TTL- and CMOS-compatible input pins. Each pin has a 1-uA pull-up.", 3 D1 (in) "TTL- and CMOS-compatible input pins. Each pin has a 1-uA pull-up.", 4 ILIM (in) "A resistor RILIM from ILIM to GND sets the current limit IL to 250/RILIM .", 5 GND (power) "Ground", 6 IN2 (power) "Primary power switch input. The IN1 switch can be enabled only if the IN1 supply is above the UVLO threshold and at least one supply exceeds the internal VDD UVLO.", 7 OUT (power) "Power switch output", 8 IN1 (power) "Primary power switch input. The IN1 switch can be enabled only if the IN1 supply is above the UVLO threshold and at least one supply exceeds the internal VDD UVLO."

## TPS2114APWG4
designator U?
Dual In / Single Out Autoswitching Power Mux, 2.8 to 5.5 V, -40 to 85 degC, 8-pin TSSOP (PW), Green (RoHS & no Sb/Br); Manufacturer: Texas Instruments; PartNumber: TPS2114APWG4; IN1 Output Current(Max)(A): 0.75; IN1 rDS(on)(Typ)(mOhm): 120; IN1, IN2 Input Voltage(Max)(V): 5.5; IN1, IN2 Input Voltage(Min)(V): 2.8; IN2 rDS(on)(Typ)(Ohms): 0.12; Number of Inputs: 2; SubFamily: Power Multiplexer (MUX); DatasheetVersion: SBVS044F; PackageVersion: revG, Feb-2011; PackageReference: PW8; PackageDescription: 8-Pin Plastic Thin Small Outline Package 3 x 4.4 mm Body ,0.65 mm Pitch; Supplier 1: Digi-Key; Supplier Part Number 1: TPS2114APWG4-ND; Supplier 2: Newark; Supplier Part Number 2: 18M3213; Supplier 3: Mouser; Supplier Part Number 3: 595-TPS2114APWG4; Eco-Plan: Green (RoHS & no Sb/Br); IN2 Output Current(Max)(A): 0.75; Mounting Technology: Surface Mount; Code_JEDEC: MO-153; ComponentLink1Description: Datasheet; ComponentLink1URL: http://www.ti.com/general/docs/lit/getliterature.tsp?genericPartNumber=TPS2114A&fileType=pdf
footprint PW8_N (TSOP, 8-Leads, Body 3x4.4mm, Pitch 0.65mm, IPC Medium Density)
footprint PW8_L (TSOP, 8-Leads, Body 3x4.4mm, Pitch 0.65mm, IPC High Density)
footprint PW8_M (TSOP, 8-Leads, Body 3x4.4mm, Pitch 0.65mm, IPC Low Density)
pins: 1 STAT (hiz) "STAT is an open-drain output that is Hi-Z if the IN2 switch is ON. STAT pulls low if the IN1 switch is ON or if OUT is Hi-Z (i.e., E\N\ is equal to logic 0).", 2 D0 (in) "TTL- and CMOS-compatible input pins. Each pin has a 1-uA pull-up.", 3 D1 (in) "TTL- and CMOS-compatible input pins. Each pin has a 1-uA pull-up.", 4 ILIM (in) "A resistor RILIM from ILIM to GND sets the current limit IL to 250/RILIM .", 5 GND (power) "Ground", 6 IN2 (power) "Primary power switch input. The IN1 switch can be enabled only if the IN1 supply is above the UVLO threshold and at least one supply exceeds the internal VDD UVLO.", 7 OUT (power) "Power switch output", 8 IN1 (power) "Primary power switch input. The IN1 switch can be enabled only if the IN1 supply is above the UVLO threshold and at least one supply exceeds the internal VDD UVLO."